# EAGLE library part MAX16910 (library maxim-integrated)
200mA, Automotive, Ultra-Low Quiescent Current, Linear Regulator The MAX16910 ultra-low quiescent current, high-voltage linear regulator is ideal for use in automotive and batteryoperated systems. The device operates from a +3.5V to +30V input voltage, delivers up to 200mA of load current, and consumes only 20µA of quiescent current at no load. The device consumes only 1.6µA current when in shutdown. The input is +45V transient tolerant and is designed to operate under load-dump conditions. The MAX16910 can be configured as either fixed output voltage (+3.3V or +5V) or adjustable output voltage using an external resistive divider. The MAX16910 features an open-drain, active-low RESEToutput with fixed thresholds offered at 92.5% and 87.5% of the output voltage. The RESET output remains low for a fixed period of 60µs after the output voltage exceedsits threshold. The RESET delay can be extended with an external capacitor. The MAX16910 includes an enable input, short-circuit protection, and thermal shutdown. The MAX16910 operates over the -40°C to +125°C automotive temperature range. The device is available in a space-saving, thermally enhanced, 3mm x 3mm, 8-pin TDFN package and 5mm x 4mm, 8-pin SO package.
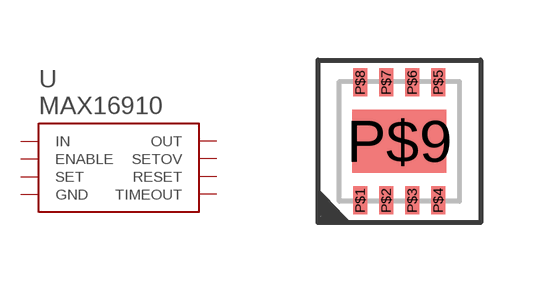
[diagram p0: symbol with the pads of 8-TDFN-EP; footprint 8-TDFN-EP]

Designator prefix U

## MAX16910  [8-TDFN-EP]
P$1  IN
P$2  ENABLE
P$3  SET
P$4  RESET
P$5  TIMEOUT
P$6  SETOV
P$7  GND
P$8  OUT
P$9  GND

## Footprint 8-TDFN-EP (pad centres in mm)
smd 0.35 x 0.7: P$1 -0.975,-1.475; P$2 -0.325,-1.475; P$3 0.325,-1.475; P$4 0.975,-1.475; P$5 0.975,1.475; P$6 0.325,1.475; P$7 -0.325,1.475; P$8 -0.975,1.475
smd 2.35 x 1.58: P$9 0,0